# Altium schematic symbol library IC-Rockchip.SchLib: 1 symbol
Pins are listed as number, name and electrical type; pins without a type are passive.

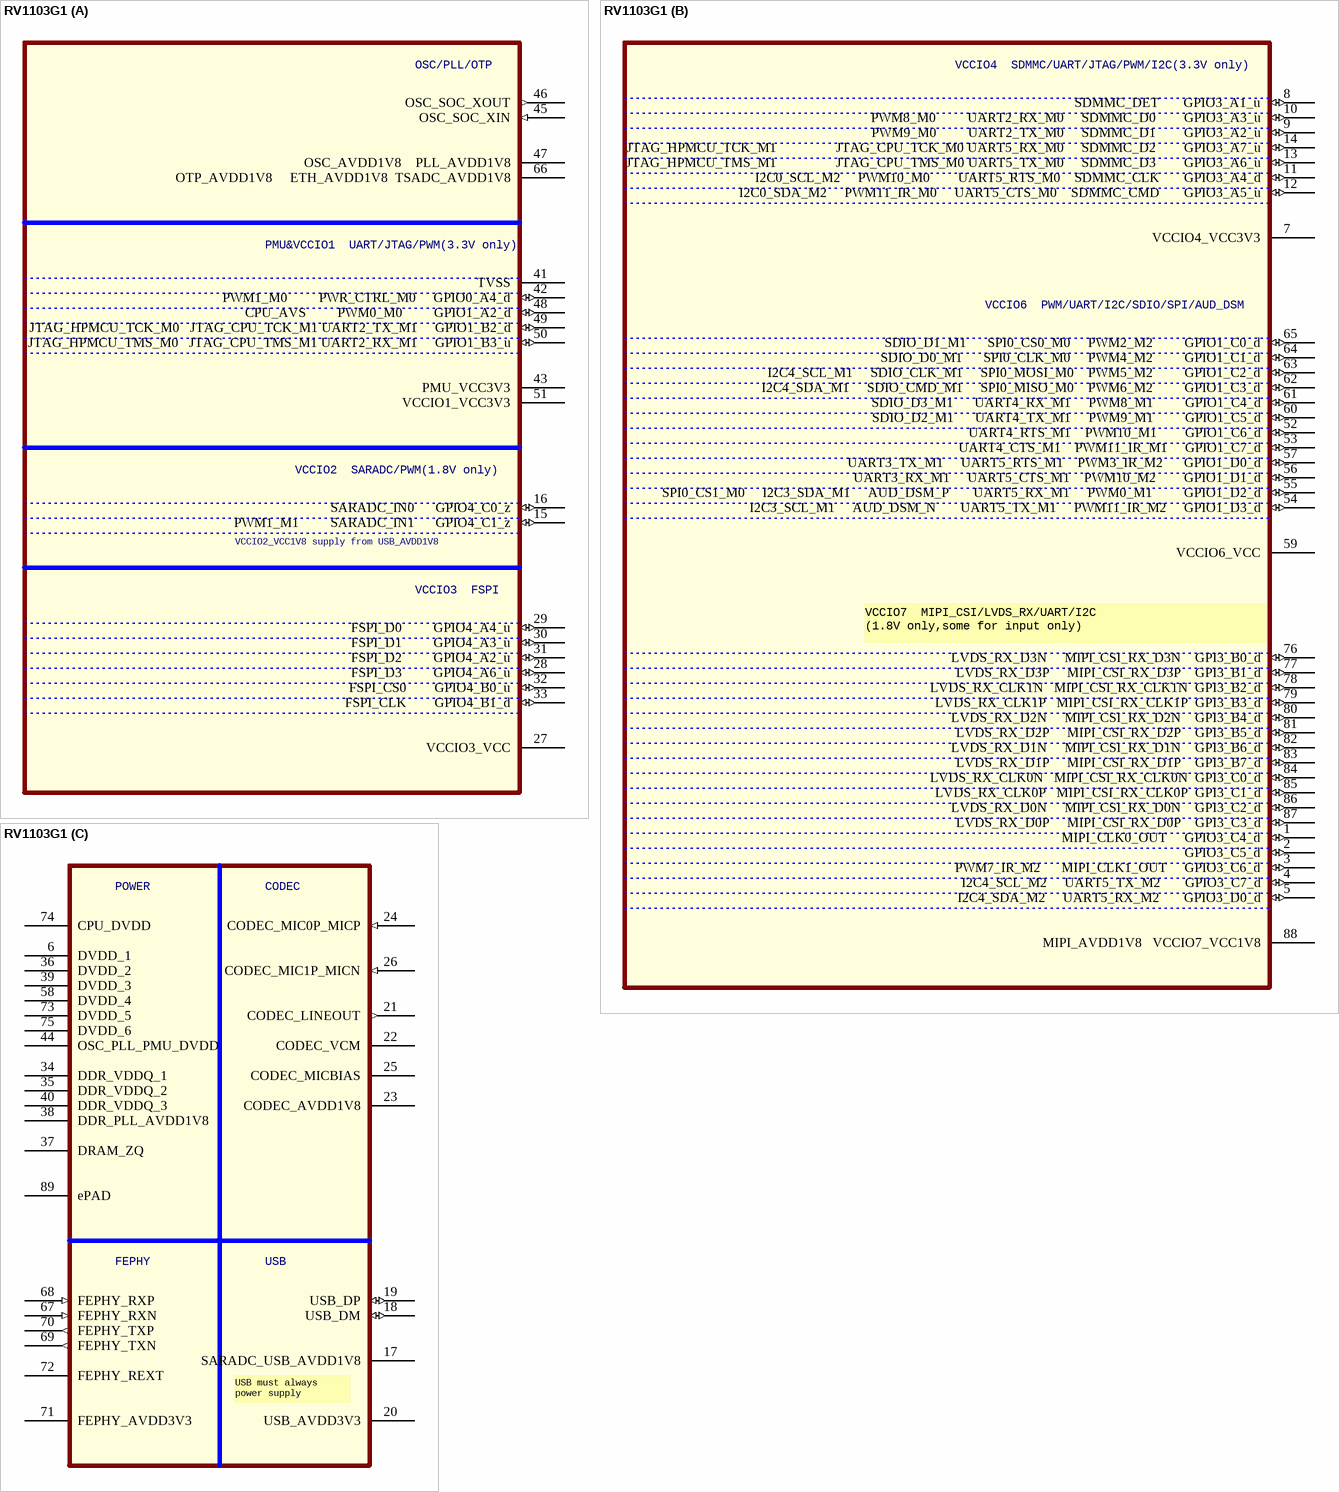
[diagram p0: symbol RV1103G1]

## RV1103G1
designator IC?  (value not drawn)
Processor Soc; Manufacturer_Name: Rockchip(瑞芯微); Manufacturer_Part_Number: RV1103G1; LCSC: C5307358; Manufacturer_Name_1: *; Manufacturer_Part_Number_1: *
footprint QFN88
part A pins: 15 PWM1_M1         SARADC_IN1      GPIO4_C1_z (io), 16 SARADC_IN0      GPIO4_C0_z (io), 27 VCCIO3_VCC (power), 28 FSPI_D3         GPIO4_A6_u (io), 29 FSPI_D0         GPIO4_A4_u (io), 30 FSPI_D1         GPIO4_A3_u (io), 31 FSPI_D2         GPIO4_A2_u (io), 32 FSPI_CS0        GPIO4_B0_u (io), 33 FSPI_CLK        GPIO4_B1_d (io), 41 TVSS (power), 42 PWM1_M0         PWR_CTRL_M0     GPIO0_A4_d (io), 43 PMU_VCC3V3 (power), 45 OSC_SOC_XIN (in), 46 OSC_SOC_XOUT (out), 47 OSC_AVDD1V8    PLL_AVDD1V8 (power), 48 CPU_AVS         PWM0_M0         GPIO1_A2_d (io), 49 JTAG_HPMCU_TCK_M0   JTAG_CPU_TCK_M1 UART2_TX_M1     GPIO1_B2_d (io), 50 JTAG_HPMCU_TMS_M0   JTAG_CPU_TMS_M1 UART2_RX_M1     GPIO1_B3_u (io), 51 VCCIO1_VCC3V3 (power), 66 OTP_AVDD1V8     ETH_AVDD1V8  TSADC_AVDD1V8 (power)
part B pins: 1 MIPI_CLK0_OUT     GPIO3_C4_d (io), 2 GPIO3_C5_d (io), 3 PWM7_IR_M2      MIPI_CLK1_OUT     GPIO3_C6_d (io), 4 I2C4_SCL_M2     UART5_TX_M2       GPIO3_C7_d (io), 5 I2C4_SDA_M2     UART5_RX_M2       GPIO3_D0_d (io), 7 VCCIO4_VCC3V3, 8 SDMMC_DET       GPIO3_A1_u (io), 9 PWM9_M0         UART2_TX_M0     SDMMC_D1        GPIO3_A2_u (io), 10 PWM8_M0         UART2_RX_M0     SDMMC_D0        GPIO3_A3_u (io), 11 I2C0_SCL_M2     PWM10_M0        UART5_RTS_M0    SDMMC_CLK       GPIO3_A4_d (io), 12 I2C0_SDA_M2     PWM11_IR_M0     UART5_CTS_M0    SDMMC_CMD       GPIO3_A5_u (io), 13 JTAG_HPMCU_TMS_M1                 JTAG_CPU_TMS_M0 UART5_TX_M0     SDMMC_D3        GPIO3_A6_u (io), 14 JTAG_HPMCU_TCK_M1                 JTAG_CPU_TCK_M0 UART5_RX_M0     SDMMC_D2        GPIO3_A7_u (io), 52 UART4_RTS_M1    PWM10_M1        GPIO1_C6_d (io), 53 UART4_CTS_M1    PWM11_IR_M1     GPIO1_C7_d (io), 54 I2C3_SCL_M1     AUD_DSM_N       UART5_TX_M1     PWM11_IR_M2     GPIO1_D3_d (io), 55 SPI0_CS1_M0     I2C3_SDA_M1     AUD_DSM_P       UART5_RX_M1     PWM0_M1         GPIO1_D2_d (io), 56 UART3_RX_M1     UART5_CTS_M1    PWM10_M2        GPIO1_D1_d (io), 57 UART3_TX_M1     UART5_RTS_M1    PWM3_IR_M2      GPIO1_D0_d (io), 59 VCCIO6_VCC, 60 SDIO_D2_M1      UART4_TX_M1     PWM9_M1         GPIO1_C5_d (io), 61 SDIO_D3_M1      UART4_RX_M1     PWM8_M1         GPIO1_C4_d (io), 62 I2C4_SDA_M1     SDIO_CMD_M1     SPI0_MISO_M0    PWM6_M2         GPIO1_C3_d (io), 63 I2C4_SCL_M1     SDIO_CLK_M1     SPI0_MOSI_M0    PWM5_M2         GPIO1_C2_d (io), 64 SDIO_D0_M1      SPI0_CLK_M0     PWM4_M2         GPIO1_C1_d (io), 65 SDIO_D1_M1      SPI0_CS0_M0     PWM2_M2         GPIO1_C0_d (io), 76 LVDS_RX_D3N     MIPI_CSI_RX_D3N    GPI3_B0_d (io), 77 LVDS_RX_D3P     MIPI_CSI_RX_D3P    GPI3_B1_d (io), 78 LVDS_RX_CLK1N   MIPI_CSI_RX_CLK1N  GPI3_B2_d (io), 79 LVDS_RX_CLK1P   MIPI_CSI_RX_CLK1P  GPI3_B3_d (io), 80 LVDS_RX_D2N     MIPI_CSI_RX_D2N    GPI3_B4_d (io), 81 LVDS_RX_D2P     MIPI_CSI_RX_D2P    GPI3_B5_d (io), 82 LVDS_RX_D1N     MIPI_CSI_RX_D1N    GPI3_B6_d (io), 83 LVDS_RX_D1P     MIPI_CSI_RX_D1P    GPI3_B7_d (io), 84 LVDS_RX_CLK0N   MIPI_CSI_RX_CLK0N  GPI3_C0_d (io), 85 LVDS_RX_CLK0P   MIPI_CSI_RX_CLK0P  GPI3_C1_d (io), 86 LVDS_RX_D0N     MIPI_CSI_RX_D0N    GPI3_C2_d (io), 87 LVDS_RX_D0P     MIPI_CSI_RX_D0P    GPI3_C3_d (io), 88 MIPI_AVDD1V8   VCCIO7_VCC1V8
part C pins: 6 DVDD_1 (power), 17 SARADC_USB_AVDD1V8 (power), 18 USB_DM (io), 19 USB_DP (io), 20 USB_AVDD3V3 (power), 21 CODEC_LINEOUT (out), 22 CODEC_VCM, 23 CODEC_AVDD1V8, 24 CODEC_MIC0P_MICP (in), 25 CODEC_MICBIAS, 26 CODEC_MIC1P_MICN (in), 34 DDR_VDDQ_1 (power), 35 DDR_VDDQ_2 (power), 36 DVDD_2 (power), 37 DRAM_ZQ, 38 DDR_PLL_AVDD1V8, 39 DVDD_3 (power), 40 DDR_VDDQ_3 (power), 44 OSC_PLL_PMU_DVDD (power), 58 DVDD_4 (power), 67 FEPHY_RXN (in), 68 FEPHY_RXP (in), 69 FEPHY_TXN (out), 70 FEPHY_TXP (out), 71 FEPHY_AVDD3V3, 72 FEPHY_REXT, 73 DVDD_5 (power), 74 CPU_DVDD (power), 75 DVDD_6 (power), 89 ePAD (power)
part A text: OSC/PLL/OTP; PMU&VCCIO1  UART/JTAG/PWM(3.3V only); VCCIO2  SARADC/PWM(1.8V only); VCCIO2_VCC1V8 supply from USB_AVDD1V8; VCCIO3  FSPI
part B text: VCCIO4  SDMMC/UART/JTAG/PWM/I2C(3.3V only); VCCIO6  PWM/UART/I2C/SDIO/SPI/AUD_DSM; VCCIO7  MIPI_CSI/LVDS_RX/UART/I2C / (1.8V only,some for input only)
part C text: POWER; CODEC; FEPHY; USB; USB must always / power supply